# EAGLE library part 7MPL900 (library ads4)
Vytek Wireless PL900
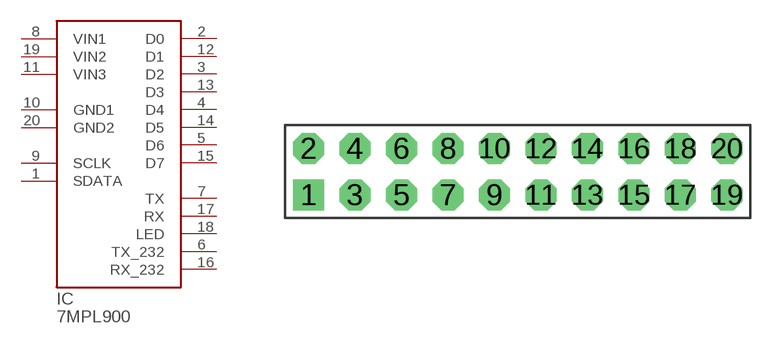
[diagram p39: symbol with the pads of CON20P2R; footprint CON20P2R]

Designator prefix IC

## 7MPL900  [CON20P2R]
1  SDATA  in
2  D0  out
3  D2  out
4  D4  out
5  D6  out
6  TX_232  pas
7  TX  out
8  VIN1  pwr
9  SCLK  in
10  GND1  pwr
11  VIN3  pwr
12  D1  out
13  D3  out
14  D5  out
15  D7  out
16  RX_232  pas
17  RX  in
18  LED  out
19  VIN2  pwr
20  GND2  pwr

## Footprint CON20P2R (pad centres in mm)
20-pin 0.1" dual-row connector
drill 1.016 pad 1.676 square: 1 0,0
drill 1.016 pad 1.676 octagon: 2 0,2.54; 3 2.54,0; 4 2.54,2.54; 5 5.08,0; 6 5.08,2.54; 7 7.62,0; 8 7.62,2.54; 9 10.16,0; 10 10.16,2.54; 11 12.7,0; 12 12.7,2.54; 13 15.24,0; 14 15.24,2.54; 15 17.78,0; 16 17.78,2.54; 17 20.32,0; 18 20.32,2.54; 19 22.86,0; 20 22.86,2.54